# EAGLE library part IC-IRDA-MCP2122 (library mylib)
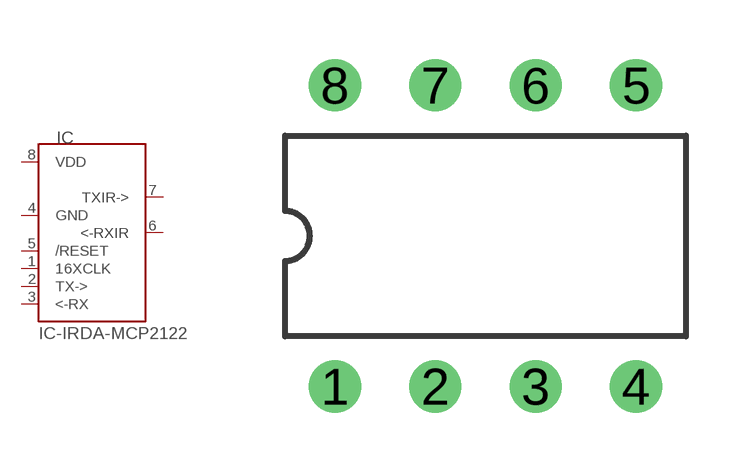
[diagram p37: symbol with the pads of IC-SOCKET-DIL-08; footprint IC-SOCKET-DIL-08]

Designator prefix IC

## IC-IRDA-MCP2122  [IC-SOCKET-DIL-08]
1  16XCLK
2  TX->
3  <-RX
4  GND
5  /RESET
6  <-RXIR
7  TXIR->
8  VDD

## Footprint IC-SOCKET-DIL-08 (pad centres in mm)
Dual In Line package type P
drill 0.813: 1 -3.81,-3.81; 2 -1.27,-3.81; 3 1.27,-3.81; 4 3.81,-3.81; 5 3.81,3.81; 6 1.27,3.81; 7 -1.27,3.81; 8 -3.81,3.81